# Altium schematic symbol library TMP112AIDRLR.SchLib: 1 symbol
Pins are listed as number, name and electrical type; pins without a type are passive.

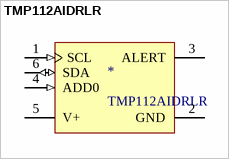
[diagram p0: symbol TMP112AIDRLR]

## TMP112AIDRLR
designator *
Board Mount Temperature Sensors Hi-Prec Lo-Pwr Dig Temp Sensor; Supplier 1: Mouser; Supplier Part Number 1: 595-TMP112AIDRLR
footprint TMP112AIDRLR (Board Mount Temperature Sensors Hi-Prec Lo-Pwr Dig Temp Sensor)
pins: 1 SCL (in) "Serial clock. Open-drain output; requires a pullup resistor.", 2 GND (power) "Ground", 3 ALERT (oc) "Overtemperature alert. Open-drain output; requires a pullup resistor.", 4 ADD0 (in) "Address select. Connect to GND or V+", 5 V+ (power) "Supply voltage, 1.4 V to 3.6 V", 6 SDA (io) "Serial data. Open-drain output; requires a pullup resistor."